# Altium footprint library Skayboard.PcbLib: 1 footprints
Each footprint in its own frame and in the unit in brackets; x right, y up, seen from the top. Pads: shape width x height; smd on the part's side, far side on the other; paste and mask are expansions set on the pad; w line width, h text height; cw(c..) or ccw(c..) is an arc to the next point about the centre after c.
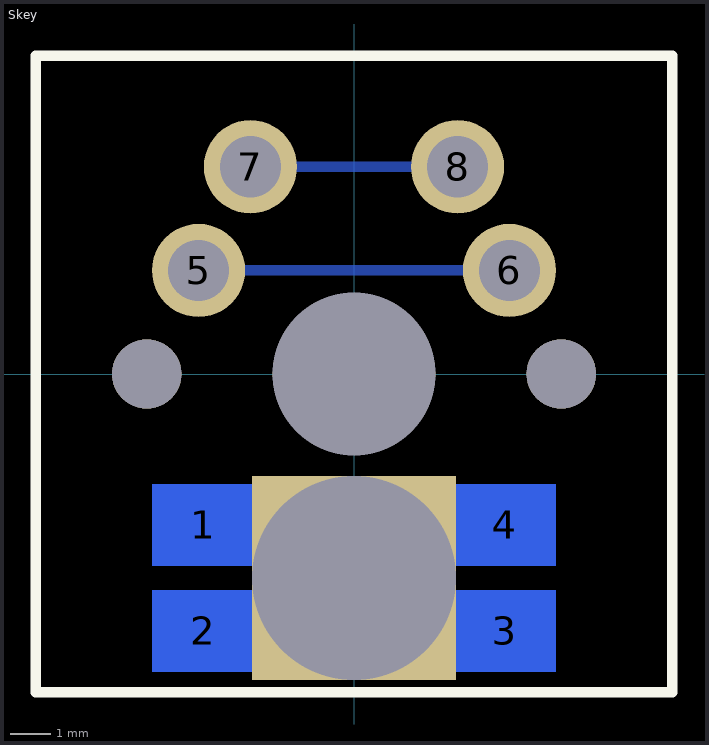
[diagram p0: the footprint, top view; thin cyan lines are the x and y axes]

## Skey [mil] "Skey's footprint"
pads (12):
  rect 98.43x78.74 smd far side: 1(-145.67,-145.67) 2(-145.67,-248.03) 3(145.67,-248.03) 4(145.67,-145.67)
  round 90 hole 59: 5(-150,100) 6(150,100) 7(-100,200) 8(100,200)
  round 67 hole 67: ""(-200,0) ""(200,0)
  rect 196.85x196.85 hole 196.85 square: ""(0,-196.85)
  round 157 hole 157: ""(0,0)
Bottom Layer:
  lines w10: -150,100 150,100 ; -100,200 100,200
Top Overlay:
  lines w10: -307.09,-307.09 -307.09,307.09 307.09,307.09 307.09,-307.09 -307.09,-307.09